# Altium schematic symbol library 905_Series_Kit.Schlib: 1 symbol
Pins are listed as number, name and electrical type; pins without a type are passive.

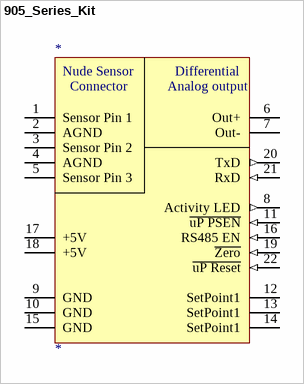
[diagram p0: symbol 905_Series_Kit]

## 905_Series_Kit
designator *
905-0003 Electronic module & Nude sensor
footprint DIP-28-Wide
pins: 1 Sensor Pin 1, 2 AGND, 3 Sensor Pin 2, 4 AGND, 5 Sensor Pin 3, 6 Out+, 7 Out-, 8 Activity LED (out), 9 GND, 10 GND, 11 ~{uP PSEN} (in) "Serial programming enable", 12 SetPoint1 (oc) "Open Collector", 13 SetPoint1 (oc) "Open Collector", 14 SetPoint1 (oc) "Open Collector", 15 GND, 16 RS485 EN (in) "Remote zero switch", 17 +5V, 18 +5V, 19 ~{Zero} (in) "Remote zero switch", 20 TxD (out), 21 RxD (in), 22 ~{uP Reset} (in) "Serial programming enable"
text: Nude Sensor; Differential; Connector; Analog output